# Altium footprint library rf_connectors.PcbLib: 2 footprints
Each footprint in its own frame and in the unit in brackets; x right, y up, seen from the top. Pads: shape width x height; smd on the part's side, far side on the other; paste and mask are expansions set on the pad; w line width, h text height; cw(c..) or ccw(c..) is an arc to the next point about the centre after c.
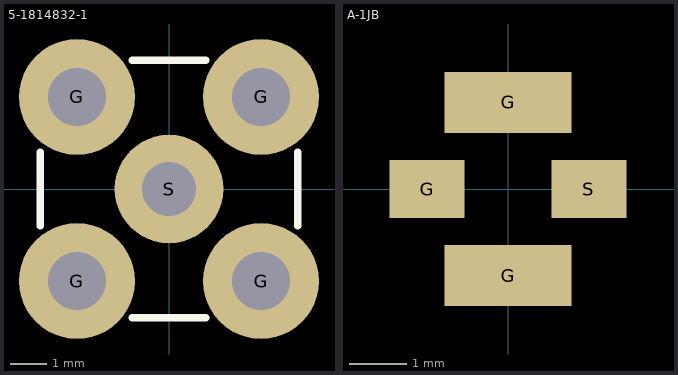
[diagram p0: the footprints below, top view; thin cyan lines are the x and y axes]

## 5-1814832-1 [mm] "SMA Female THT Connectos, TE Connectivity"
pads (5):
  round 3.2 hole 1.6: G(-2.54,-2.54) G(-2.54,2.54) G(2.54,-2.54) G(2.54,2.54)
  round 3 hole 1.5: S(0,0)
Top Overlay:
  lines w0.2: -3.556,-1.016 -3.556,1.016 ; -1.016,-3.556 1.016,-3.556 ; -1.016,3.556 1.016,3.556 ; 3.556,-1.016 3.556,1.016
3D body "User Library-SMA_Stehend_Amp 132134RP-1.STEP": height 9.53, standoff -3.94, extent -3.5,-3.5 3.5,3.5

## A-1JB [mm]
height 1.28
pads (4):
  rect 1.3x1 smd: G(-1.4,0) S(1.4,0)
  rect 2.2x1.05 smd: G(0,-1.5) G(0,1.5)
3D body "A-1JB.stp": height 1.28, standoff 0.03, extent -1.55,-1.5 1.55,1.5